# Altium integrated library SparkFun-IC-Comms.IntLib: 19 symbols
Pins are listed as number, name and electrical type; pins without a type are passive.

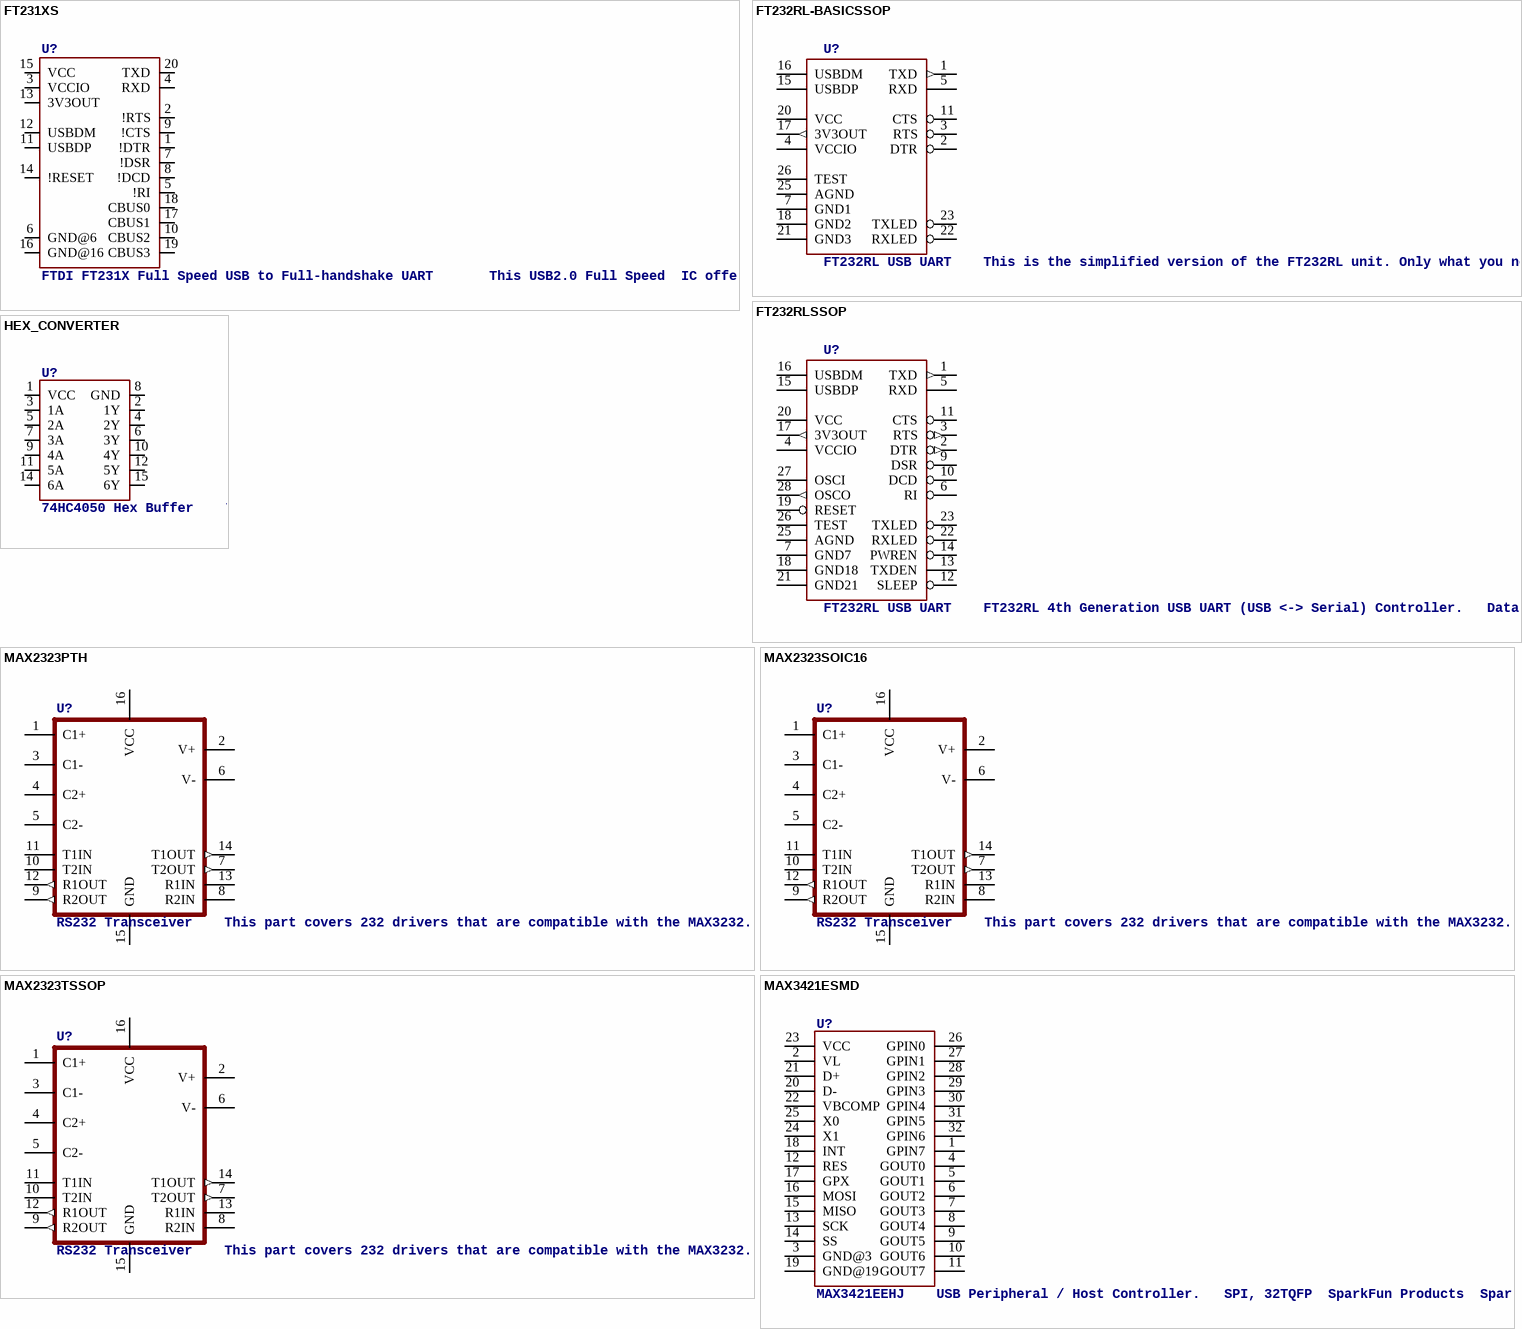
[diagram p0: symbols FT231XS to MAX3421ESMD]

## FT231XS
designator U?, comment FTDI FT231X Full Speed USB to Full-handshake UART       This USB2.0 Full Speed  IC offers a compact bridge to full handshake UART interfaces. The device is a UART, capable of operating up to 3MBaud, with low power consumption (8mA). The FT231X includes the complete FT-X series feature set and enables USB to be added into a system design quickly and easily over a UART interface.   Datasheet SparkFun Products  SparkFun RedBoard - Programmed with Arduino (DEV-12757)  SparkFun XBee Explorer USB (WRL-11812)  SparkFun XBee Explorer Dongle (WRL-11697)  SparkFun Blynk Board - ESP8266 (WRL-13794)  SparkFun ESP8266 Thing - Dev Board (WRL-13711)  SparkFun Block for Intel® Edison - Base (DEV-13045)  SparkFun RedStick (DEV-13741)  SparkFun Beefy 3 - FTDI Basic Breakout (DEV-13746)  SparkFun FT231X Breakout (BOB-11736)
PROD_ID: IC-11524
footprint SSOP20_L
pins: 1 !DTR, 2 !RTS, 3 VCCIO, 4 RXD, 5 !RI, 6 GND@6, 7 !DSR, 8 !DCD, 9 !CTS, 10 CBUS2, 11 USBDP, 12 USBDM, 13 3V3OUT, 14 !RESET, 15 VCC, 16 GND@16, 17 CBUS1, 18 CBUS0, 19 CBUS3, 20 TXD

## FT232RL-BASICSSOP
designator U?, comment FT232RL USB UART    This is the simplified version of the FT232RL unit. Only what you need, nothing you don't.   FT232RL 4th Generation USB UART (USB <-> Serial) Controller.   Datasheet SparkFun Products  Component (COM-00650)  SparkFun RedBot Mainboard (ROB-12097)  SparkFun FTDI Basic Breakout - 5V (DEV-09716)  SparkFun FTDI Basic Breakout - 3.3V (DEV-09873)  Bus Pirate - v3.6a (TOL-12942)  SparkFun USB to Serial Breakout - FT232RL (BOB-12731)  SparkFun PicoBoard (WIG-11888)  SparkFun RFID USB Reader (SEN-09963)  LilyPad FTDI Basic Breakout - 5V (DEV-10275)  SparkFun Stepoko (ROB-13899)
PROD_ID: IC-00870
footprint SSOP28DB
pins: 1 TXD (out), 2 DTR, 3 RTS, 4 VCCIO (power), 5 RXD, 7 GND1 (power), 11 CTS, 15 USBDP, 16 USBDM, 17 3V3OUT (out), 18 GND2 (power), 20 VCC (power), 21 GND3 (power), 22 RXLED, 23 TXLED, 25 AGND (power), 26 TEST

## FT232RLSSOP
designator U?, comment FT232RL USB UART    FT232RL 4th Generation USB UART (USB <-> Serial) Controller.   Datasheet SparkFun Products  Component (COM-00650)  SparkFun RedBot Mainboard (ROB-12097)  SparkFun FTDI Basic Breakout - 5V (DEV-09716)  SparkFun FTDI Basic Breakout - 3.3V (DEV-09873)  Bus Pirate - v3.6a (TOL-12942)  SparkFun USB to Serial Breakout - FT232RL (BOB-12731)  SparkFun PicoBoard (WIG-11888)  SparkFun RFID USB Reader (SEN-09963)  LilyPad FTDI Basic Breakout - 5V (DEV-10275)  SparkFun Stepoko (ROB-13899)
PROD_ID: IC-00870
footprint SSOP28DB
pins: 1 TXD (out), 2 DTR (out), 3 RTS (out), 4 VCCIO (power), 5 RXD, 6 RI, 7 GND7 (power), 9 DSR, 10 DCD, 11 CTS, 12 SLEEP, 13 TXDEN, 14 PWREN, 15 USBDP, 16 USBDM, 17 3V3OUT (out), 18 GND18 (power), 19 RESET, 20 VCC (power), 21 GND21 (power), 22 RXLED, 23 TXLED, 25 AGND (power), 26 TEST, 27 OSCI, 28 OSCO (out)

## HEX_CONVERTER
designator U?, comment 74HC4050 Hex Buffer    74HC4050 Hex Buffer Level Shifter SMD SO016 SparkFun Products  CAN-BUS Shield (DEV-13262)  SparkFun MP3 Player Shield (DEV-12660)  SparkFun microSD Shield (DEV-12761)  SparkFun USB Host Shield (DEV-09947)
PROD_ID: IC-09604
footprint SO16
pins: 1 VCC, 2 1Y, 3 1A, 4 2Y, 5 2A, 6 3Y, 7 3A, 8 GND, 9 4A, 10 4Y, 11 5A, 12 5Y, 14 6A, 15 6Y

## MAX2323PTH
designator U?, comment RS232 Transceiver    This part covers 232 drivers that are compatible with the MAX3232.   Sipex SP3232EB Datasheet SparkFun Products  SOIC component (COM-00589 /  IC-08171)  Retired DIP component (COM-00316 / IC-08446)  SparkFun Transceiver Breakout - MAX3232 (BOB-11189)  SparkFun XBee Explorer Serial (WRL-13225)
PROD_ID: IC-08446
footprint DIP16
pins: 1 C1+, 2 V+, 3 C1-, 4 C2+, 5 C2-, 6 V-, 7 T2OUT (out), 8 R2IN, 9 R2OUT (out), 10 T2IN, 11 T1IN, 12 R1OUT (out), 13 R1IN, 14 T1OUT (out), 15 GND, 16 VCC

## MAX2323SOIC16
designator U?, comment RS232 Transceiver    This part covers 232 drivers that are compatible with the MAX3232.   Sipex SP3232EB Datasheet SparkFun Products  SOIC component (COM-00589 /  IC-08171)  Retired DIP component (COM-00316 / IC-08446)  SparkFun Transceiver Breakout - MAX3232 (BOB-11189)  SparkFun XBee Explorer Serial (WRL-13225)
PROD_ID: IC-08171
footprint SO16
pins: 1 C1+, 2 V+, 3 C1-, 4 C2+, 5 C2-, 6 V-, 7 T2OUT (out), 8 R2IN, 9 R2OUT (out), 10 T2IN, 11 T1IN, 12 R1OUT (out), 13 R1IN, 14 T1OUT (out), 15 GND, 16 VCC

## MAX2323TSSOP
designator U?, comment RS232 Transceiver    This part covers 232 drivers that are compatible with the MAX3232.   Sipex SP3232EB Datasheet SparkFun Products  SOIC component (COM-00589 /  IC-08171)  Retired DIP component (COM-00316 / IC-08446)  SparkFun Transceiver Breakout - MAX3232 (BOB-11189)  SparkFun XBee Explorer Serial (WRL-13225)
PROD_ID: NA-XXXXX
footprint TSSOP16
pins: 1 C1+, 2 V+, 3 C1-, 4 C2+, 5 C2-, 6 V-, 7 T2OUT (out), 8 R2IN, 9 R2OUT (out), 10 T2IN, 11 T1IN, 12 R1OUT (out), 13 R1IN, 14 T1OUT (out), 15 GND, 16 VCC

## MAX3421ESMD
designator U?, comment MAX3421EEHJ    USB Peripheral / Host Controller.   SPI, 32TQFP  SparkFun Products  SparkFun USB Host Shield (DEV-09947)
PROD_ID: IC-09517
footprint TQFP32-5MM
pins: 1 GPIN7, 2 VL, 3 GND@3, 4 GOUT0, 5 GOUT1, 6 GOUT2, 7 GOUT3, 8 GOUT4, 9 GOUT5, 10 GOUT6, 11 GOUT7, 12 RES, 13 SCK, 14 SS, 15 MISO, 16 MOSI, 17 GPX, 18 INT, 19 GND@19, 20 D-, 21 D+, 22 VBCOMP, 23 VCC, 24 X1, 25 X0, 26 GPIN0, 27 GPIN1, 28 GPIN2, 29 GPIN3, 30 GPIN4, 31 GPIN5, 32 GPIN6

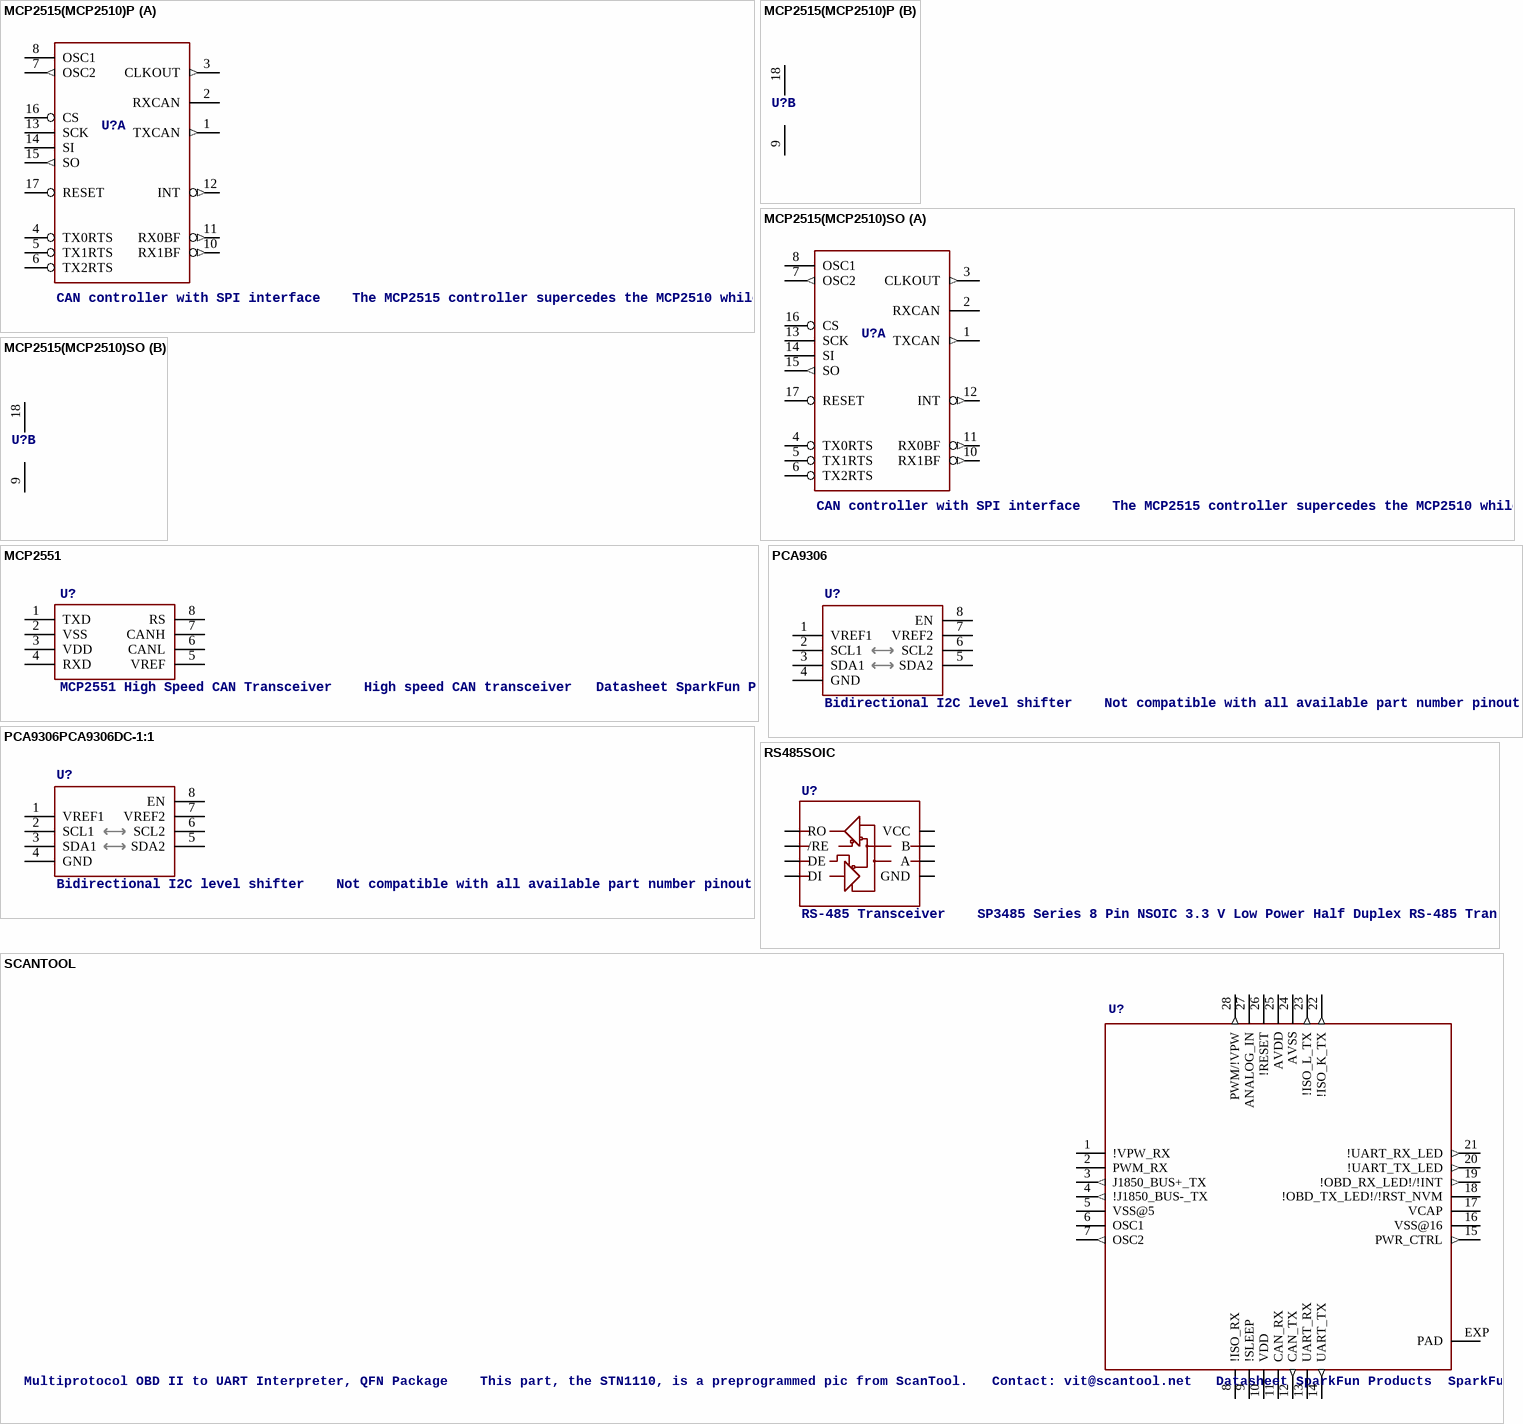
[diagram p1: symbols MCP2515(MCP2510)P to SCANTOOL]

## MCP2515(MCP2510)P
designator U?, comment CAN controller with SPI interface    The MCP2515 controller supercedes the MCP2510 while addressing all errata associated with it.  The two devices are pin compatible, either can be used with this device.  18-pin package SOIC  Simple SPI interface to any MCU.    One-shot mode ensures message transmission is attempted only once  Databyte filtering  Start-of-Frame (SOF) output  Low-power CMOS Technology       Datasheet SparkFun Products  CAN-BUS Shield (DEV-13262)
PROD_ID: NA-XXXXX
footprint DIP18
part A pins: 1 TXCAN (out), 2 RXCAN, 3 CLKOUT (out), 4 TX0RTS, 5 TX1RTS, 6 TX2RTS, 7 OSC2 (out), 8 OSC1, 10 RX1BF (out), 11 RX0BF (out), 12 INT (out), 13 SCK, 14 SI, 15 SO (out), 16 CS, 17 RESET
part B pins: 9 VSS (power), 18 VDD (power)

## MCP2515(MCP2510)SO
designator U?, comment CAN controller with SPI interface    The MCP2515 controller supercedes the MCP2510 while addressing all errata associated with it.  The two devices are pin compatible, either can be used with this device.  18-pin package SOIC  Simple SPI interface to any MCU.    One-shot mode ensures message transmission is attempted only once  Databyte filtering  Start-of-Frame (SOF) output  Low-power CMOS Technology       Datasheet SparkFun Products  CAN-BUS Shield (DEV-13262)
PROD_ID: IC-09906
footprint SO18W
part A pins: 1 TXCAN (out), 2 RXCAN, 3 CLKOUT (out), 4 TX0RTS, 5 TX1RTS, 6 TX2RTS, 7 OSC2 (out), 8 OSC1, 10 RX1BF (out), 11 RX0BF (out), 12 INT (out), 13 SCK, 14 SI, 15 SO (out), 16 CS, 17 RESET
part B pins: 9 VSS (power), 18 VDD (power)

## MCP2551
designator U?, comment MCP2551 High Speed CAN Transceiver    High speed CAN transceiver   Datasheet SparkFun Products  CAN-BUS Shield (DEV-13262)  SparkFun OBD-II UART (WIG-09555)
PROD_ID: IC-09907
footprint SO08
pins: 1 TXD, 2 VSS, 3 VDD, 4 RXD, 5 VREF, 6 CANL, 7 CANH, 8 RS

## PCA9306
designator U?, comment Bidirectional I2C level shifter    Not compatible with all available part number pinout schemes- DOUBLE CHECK!!!    Datasheet SparkFun Products  SparkFun Inventor's Kit for RedBot (ROB-12649)  SparkFun RedBot Basic Kit (ROB-13166)  SparkFun Level Translator Breakout - PCA9306 (BOB-11955)  SparkFun Block for Intel Edison - ADC (DEV-13770)  SparkFun Block for Intel® Edison - Raspberry Pi B (DEV-13044)  SparkFun RedBot Sensor - Accelerometer (SEN-12589)
PROD_ID: IC-10023
footprint PSOP-8
pins: 1 VREF1, 2 SCL1, 3 SDA1, 4 GND, 5 SDA2, 6 SCL2, 7 VREF2, 8 EN

## PCA9306PCA9306DC-1:1
designator U?, comment Bidirectional I2C level shifter    Not compatible with all available part number pinout schemes- DOUBLE CHECK!!!    Datasheet SparkFun Products  SparkFun Inventor's Kit for RedBot (ROB-12649)  SparkFun RedBot Basic Kit (ROB-13166)  SparkFun Level Translator Breakout - PCA9306 (BOB-11955)  SparkFun Block for Intel Edison - ADC (DEV-13770)  SparkFun Block for Intel® Edison - Raspberry Pi B (DEV-13044)  SparkFun RedBot Sensor - Accelerometer (SEN-12589)
PROD_ID: IC-10023
footprint PCA9306DC
pins: 1 VREF1, 2 SCL1, 3 SDA1, 4 GND, 5 SDA2, 6 SCL2, 7 VREF2, 8 EN

## RS485SOIC
designator U?, comment RS-485 Transceiver    SP3485 Series 8 Pin NSOIC 3.3 V Low Power Half Duplex RS-485 Transceiver   MAX3485 compatible   Datasheet SparkFun Products  SparkFun Transceiver Breakout - RS-485 (BOB-10124)  SparkFun USB to RS-485 Converter (BOB-09822)
PROD_ID: IC-09388
footprint SO08
pins: 1 RO, 2 /RE, 3 DE, 4 DI, 5 GND, 6 A, 7 B, 8 VCC

## SCANTOOL
designator U?, comment Multiprotocol OBD II to UART Interpreter, QFN Package    This part, the STN1110, is a preprogrammed pic from ScanTool.   Contact: vit@scantool.net   Datasheet SparkFun Products  SparkFun OBD-II UART (WIG-09555)
PROD_ID: IC-10017
footprint _STN_SCANTOOL_QFN-28-S
pins: 1 !VPW_RX, 2 PWM_RX, 3 J1850_BUS+_TX (out), 4 !J1850_BUS-_TX (out), 5 VSS@5 (power), 6 OSC1, 7 OSC2 (out), 8 !ISO_RX, 9 !SLEEP, 10 VDD (power), 11 CAN_RX, 12 CAN_TX (out), 13 UART_RX, 14 UART_TX (out), 15 PWR_CTRL (out), 16 VSS@16 (power), 17 VCAP (power), 18 !OBD_TX_LED!/!RST_NVM, 19 !OBD_RX_LED!/!INT (out), 20 !UART_TX_LED (out), 21 !UART_RX_LED (out), 22 !ISO_K_TX (out), 23 !ISO_L_TX (out), 24 AVSS (power), 25 AVDD (power), 26 !RESET, 27 ANALOG_IN, 28 PWM/!VPW (out), EXP PAD

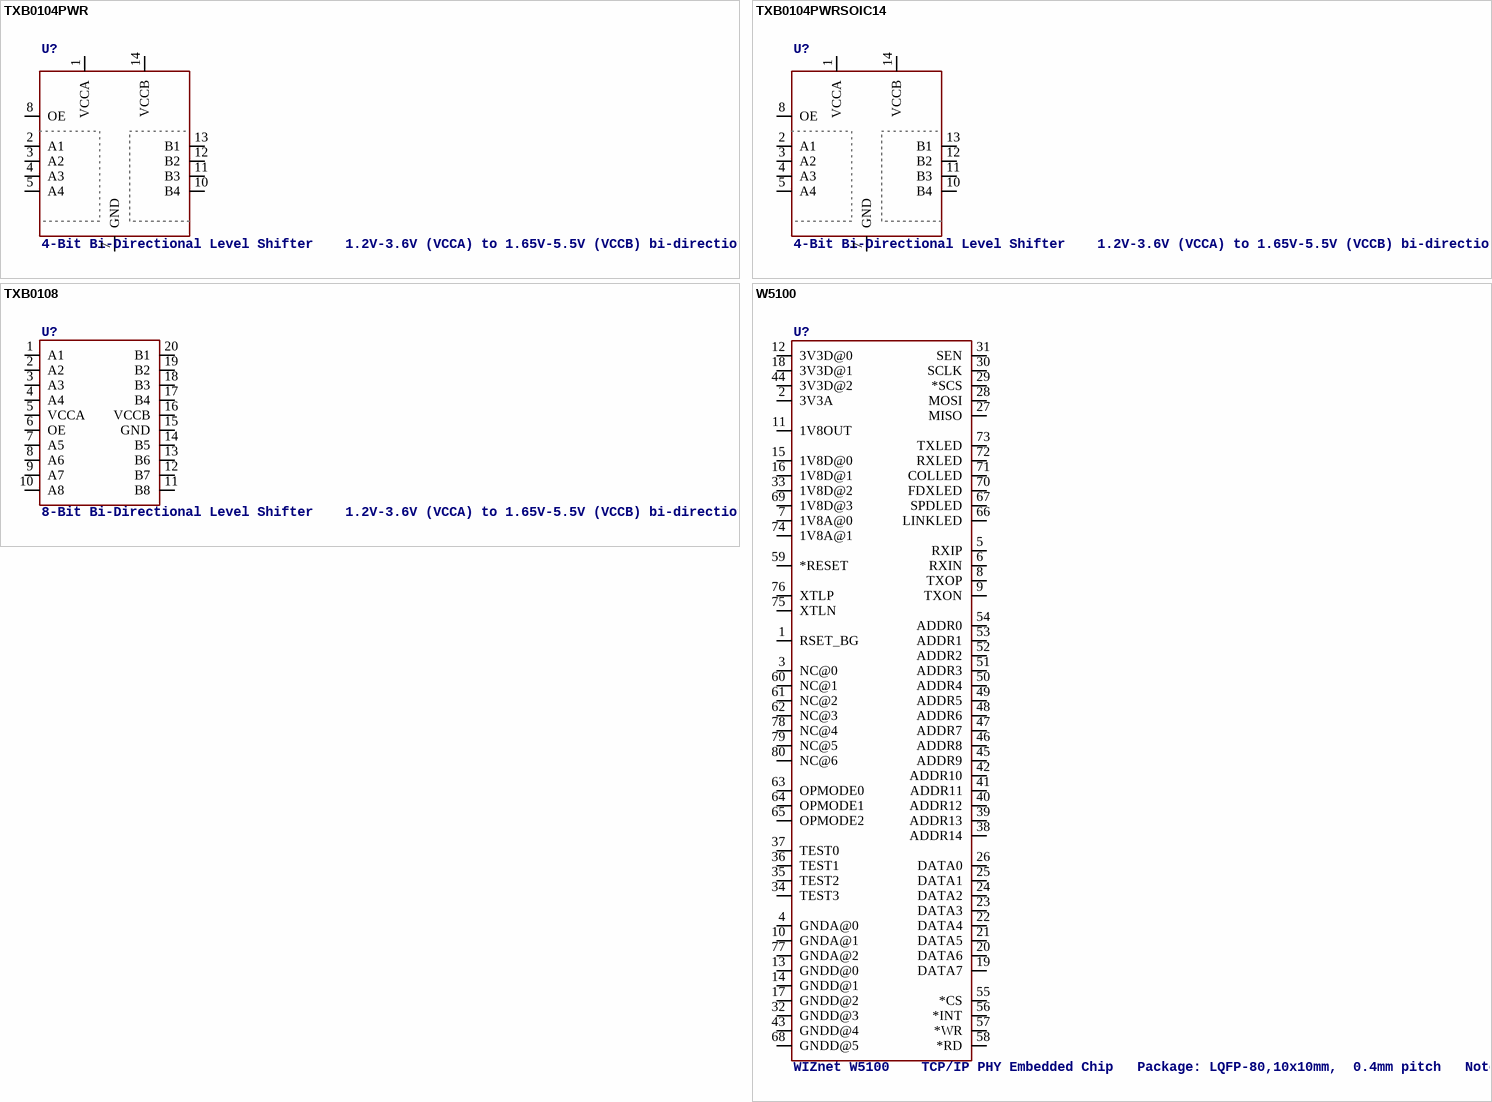
[diagram p2: symbols TXB0104PWR to W5100]

## TXB0104PWR
designator U?, comment 4-Bit Bi-Directional Level Shifter    1.2V-3.6V (VCCA) to 1.65V-5.5V (VCCB) bi-directional level shifter with auto direction sensing.    Max data rate - VCCA 1.8V:  20Mbps (50ns), VCCA 3.3V: 100Mbps (10ns)    Digikey: 296-21929-1-ND (TSSOP)       Datasheet SparkFun Products  SparkFun Cellular Shield - MG2639 (CEL-13120)  SparkFun Level Shifting microSD Breakout (DEV-13743)  SparkFun Voltage-Level Translator Breakout - TXB0104 (BOB-11771)  SparkFun Block for Intel® Edison - UART (DEV-13040)  SparkFun Block for Intel® Edison - Arduino (DEV-13036)
PROD_ID: NA-XXXXX
footprint TSSOP14
pins: 1 VCCA, 2 A1, 3 A2, 4 A3, 5 A4, 7 GND, 8 OE, 10 B4, 11 B3, 12 B2, 13 B1, 14 VCCB

## TXB0104PWRSOIC14
designator U?, comment 4-Bit Bi-Directional Level Shifter    1.2V-3.6V (VCCA) to 1.65V-5.5V (VCCB) bi-directional level shifter with auto direction sensing.    Max data rate - VCCA 1.8V:  20Mbps (50ns), VCCA 3.3V: 100Mbps (10ns)    Digikey: 296-21929-1-ND (TSSOP)       Datasheet SparkFun Products  SparkFun Cellular Shield - MG2639 (CEL-13120)  SparkFun Level Shifting microSD Breakout (DEV-13743)  SparkFun Voltage-Level Translator Breakout - TXB0104 (BOB-11771)  SparkFun Block for Intel® Edison - UART (DEV-13040)  SparkFun Block for Intel® Edison - Arduino (DEV-13036)
PROD_ID: IC-11329
footprint SO14
pins: 1 VCCA, 2 A1, 3 A2, 4 A3, 5 A4, 7 GND, 8 OE, 10 B4, 11 B3, 12 B2, 13 B1, 14 VCCB

## TXB0108
designator U?, comment 8-Bit Bi-Directional Level Shifter    1.2V-3.6V (VCCA) to 1.65V-5.5V (VCCB) bi-directional level shifter with auto direction sensing.    Max data rate - VCCA 1.2V:  20Mbps (50ns), VCCA 3.3V: 100Mbps (10ns)    Digikey: 296-27217-1-ND (20-UFDFN)     SparkFun Products  SparkFun GPS Logger Shield (GPS-13750)  SparkFun Block for Intel® Edison - microSD (DEV-13041)  SparkFun Block for Intel® Edison - Dual H-Bridge (DEV-13043)  SparkFun Block for Intel® Edison - GPIO (DEV-13038)  SparkFun Block for Intel® Edison - Raspberry Pi B (DEV-13044)
PROD_ID: IC-12292
footprint UFDFN-20
pins: 1 A1, 2 A2, 3 A3, 4 A4, 5 VCCA, 6 OE, 7 A5, 8 A6, 9 A7, 10 A8, 11 B8, 12 B7, 13 B6, 14 B5, 15 GND, 16 VCCB, 17 B4, 18 B3, 19 B2, 20 B1

## W5100
designator U?, comment WIZnet W5100    TCP/IP PHY Embedded Chip   Package: LQFP-80,10x10mm,  0.4mm pitch   Note: There is no internal production part or ID for this IC.   Datasheet SparkFun Products  WIZnet W5100 Network Module with Mag Jack - WIZ811MJ (DEV-09473)
PROD_ID: NA-XXXXX
footprint LQFP-80
pins: 1 RSET_BG, 2 3V3A, 3 NC@0, 4 GNDA@0, 5 RXIP, 6 RXIN, 7 1V8A@0, 8 TXOP, 9 TXON, 10 GNDA@1, 11 1V8OUT, 12 3V3D@0, 13 GNDD@0, 14 GNDD@1, 15 1V8D@0, 16 1V8D@1, 17 GNDD@2, 18 3V3D@1, 19 DATA7, 20 DATA6, 21 DATA5, 22 DATA4, 23 DATA3, 24 DATA2, 25 DATA1, 26 DATA0, 27 MISO, 28 MOSI, 29 *SCS, 30 SCLK, 31 SEN, 32 GNDD@3, 33 1V8D@2, 34 TEST3, 35 TEST2, 36 TEST1, 37 TEST0, 38 ADDR14, 39 ADDR13, 40 ADDR12, 41 ADDR11, 42 ADDR10, 43 GNDD@4, 44 3V3D@2, 45 ADDR9, 46 ADDR8, 47 ADDR7, 48 ADDR6, 49 ADDR5, 50 ADDR4, 51 ADDR3, 52 ADDR2, 53 ADDR1, 54 ADDR0, 55 *CS, 56 *INT, 57 *WR, 58 *RD, 59 *RESET, 60 NC@1, 61 NC@2, 62 NC@3, 63 OPMODE0, 64 OPMODE1, 65 OPMODE2, 66 LINKLED, 67 SPDLED, 68 GNDD@5, 69 1V8D@3, 70 FDXLED, 71 COLLED, 72 RXLED, 73 TXLED, 74 1V8A@1, 75 XTLN, 76 XTLP, 77 GNDA@2, 78 NC@4, 79 NC@5, 80 NC@6